# EAGLE library part RFM9XW (library X893)
RFM69HW ISM TRANSCEIVER MODULE http://www.hoperf.com/upload/rf/RFM69HW-V1.3.pdf
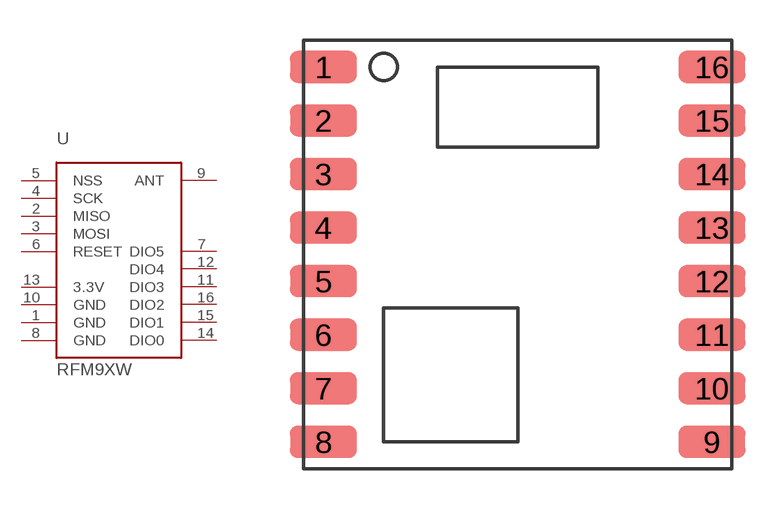
[diagram p210: symbol with the pads of RFM9XW; footprint RFM9XW]

Designator prefix U

## RFM9XW  [RFM9XW]
1  GND  pwr
2  MISO  out
3  MOSI  in
4  SCK  in
5  NSS  in
6  RESET  in
7  DIO5
8  GND  pwr
9  ANT  pas
10  GND  pwr
11  DIO3
12  DIO4
13  3.3V  pwr
14  DIO0
15  DIO1
16  DIO2

## Footprint RFM9XW (pad centres in mm)
http://www.hoperf.com/upload/rf/RFM69HW-V1.3.pdf
smd 2.5 x 1.2: 1 -7.25,7; 2 -7.25,5; 3 -7.25,3; 4 -7.25,1; 5 -7.25,-1; 6 -7.25,-3; 7 -7.25,-5; 8 -7.25,-7; 9 7.25,-7; 10 7.25,-5; 11 7.25,-3; 12 7.25,-1; 13 7.25,1; 14 7.25,3; 15 7.25,5; 16 7.25,7